# EAGLE library part PIC16F628A (library microchip)
PIC16F628A PIC16F628A product page <http://www.microchip.com/wwwproducts/en/PIC16F628A> PIC16F628A Datasheet <http://ww1.microchip.com/downloads/en/DeviceDoc/40044G.pdf>
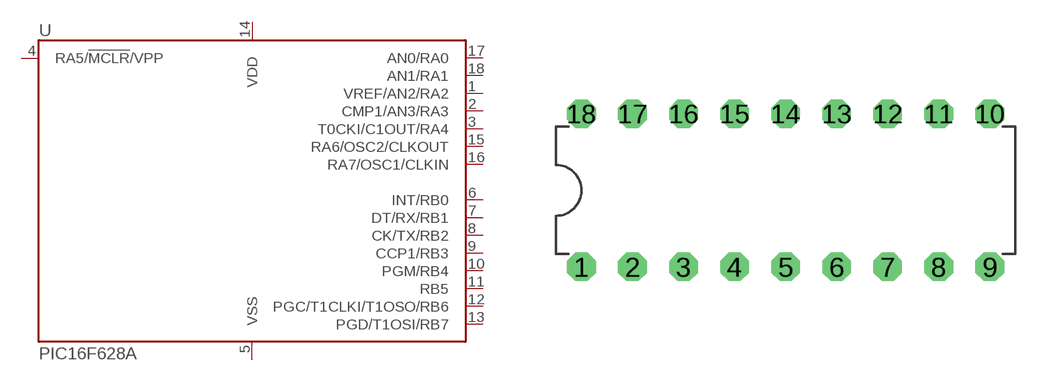
[diagram p4: symbol with the pads of DIL18; footprint DIL18]

Designator prefix U

## PIC16F628A-I/P  [DIL18]
1  VREF/AN2/RA2
2  CMP1/AN3/RA3
3  T0CKI/C1OUT/RA4
4  RA5/!MCLR!/VPP  in
5  VSS  pwr
6  INT/RB0
7  DT/RX/RB1
8  CK/TX/RB2
9  CCP1/RB3
10  PGM/RB4
11  RB5
12  PGC/T1CLKI/T1OSO/RB6
13  PGD/T1OSI/RB7
14  VDD  pwr
15  RA6/OSC2/CLKOUT  out
16  RA7/OSC1/CLKIN  in
17  AN0/RA0
18  AN1/RA1

## Footprint DIL18 (pad centres in mm)
drill 0.813 pad 1.422 octagon: 1 -10.16,-3.81; 2 -7.62,-3.81; 3 -5.08,-3.81; 4 -2.54,-3.81; 5 0,-3.81; 6 2.54,-3.81; 7 5.08,-3.81; 8 7.62,-3.81; 9 10.16,-3.81; 10 10.16,3.81; 11 7.62,3.81; 12 5.08,3.81; 13 2.54,3.81; 14 0,3.81; 15 -2.54,3.81; 16 -5.08,3.81; 17 -7.62,3.81; 18 -10.16,3.81